# Altium footprint library Ahrist_Library.PcbLib: 172 footprints (part 8 of 11)
Each footprint in its own frame and in the unit in brackets; x right, y up, seen from the top. Pads: shape width x height; smd on the part's side, far side on the other; paste and mask are expansions set on the pad; w line width, h text height; cw(c..) or ccw(c..) is an arc to the next point about the centre after c.
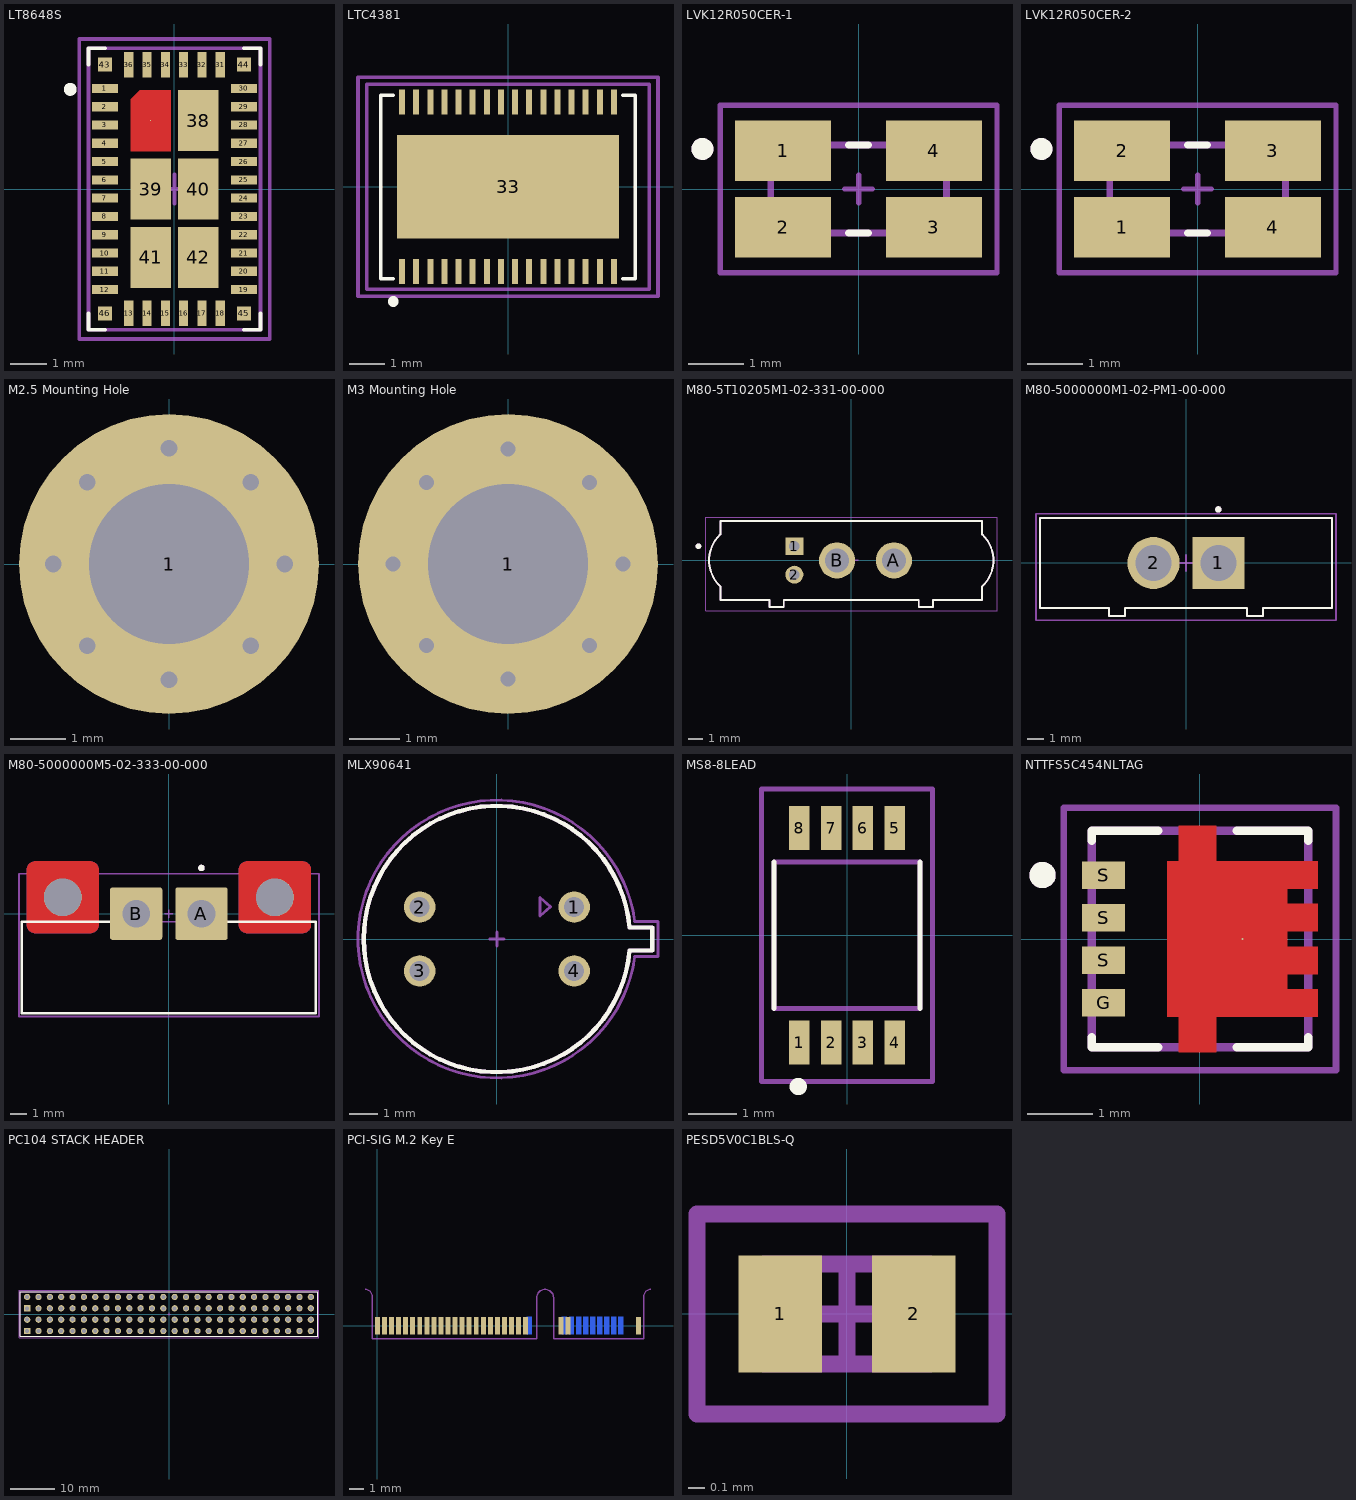
[diagram p7: the footprints below, top view; thin cyan lines are the x and y axes]

## LT8648S [mm]
height 1.03
pads (46):
  rect 0.7x0.25 smd mask+0.1: 1(-1.9,2.75) 2(-1.9,2.25) 3(-1.9,1.75) 4(-1.9,1.25) 5(-1.9,0.75) 6(-1.9,0.25) 7(-1.9,-0.25) 8(-1.9,-0.75) 9(-1.9,-1.25) 10(-1.9,-1.75) 11(-1.9,-2.25) 12(-1.9,-2.75) 19(1.9,-2.75) 20(1.9,-2.25) 21(1.9,-1.75) 22(1.9,-1.25) 23(1.9,-0.75) 24(1.9,-0.25) 25(1.9,0.25) 26(1.9,0.75) 27(1.9,1.25) 28(1.9,1.75) 29(1.9,2.25) 30(1.9,2.75)
  rect 0.25x0.7 smd mask+0.1: 13(-1.25,-3.4) 14(-0.75,-3.4) 15(-0.25,-3.4) 16(0.25,-3.4) 17(0.75,-3.4) 18(1.25,-3.4) 31(1.25,3.4) 32(0.75,3.4) 33(0.25,3.4) 34(-0.25,3.4) 35(-0.75,3.4) 36(-1.25,3.4)
  round 0.025 smd mask+0.1: 37(-0.65,1.87)
  rect 1.1x1.67 smd mask+0.1: 38(0.65,1.87) 39(-0.65,0) 40(0.65,0) 41(-0.65,-1.87) 42(0.65,-1.87)
  rect 0.375x0.375 smd mask+0.1: 43(-1.9,3.4) 44(1.9,3.4) 45(1.9,-3.4) 46(-1.9,-3.4)
Top Layer:
  region: -0.945,2.705 -1.2,2.45 -1.2,1.035 -0.1,1.035 -0.1,2.705
Top Overlay:
  circle w0.254: c-2.85,2.725 r0.05
  lines w0.1: -2.35,-3.4 -2.35,-3.85 -1.9,-3.85 ; -2.35,3.4 -2.35,3.85 -1.9,3.85 ; 1.9,-3.85 2.35,-3.85 2.35,-3.4 ; 1.9,3.85 2.35,3.85 2.35,3.4
Top Solder:
  region: 1.3,-2.805 -1.3,-2.805 -1.3,2.498 -0.992,2.805 1.3,2.805
Top Courtyard:
  lines w0.1: -2.6,-4.1 -2.6,2.7 -2.6,4.1 2.6,4.1 2.6,-4.1 -2.6,-4.1
Top Assembly:
  lines w0.1: -2.35,-3.85 2.35,-3.85 2.35,3.85 -2.35,3.85 -2.35,2.95 -2.35,-3.85
  text ".Designator" at -1.225,-0.133 h0.5
Top Component Center:
  lines w0.1: 0,-0.4 0,0 ; 0,0 0,0.4 0,0 ; 0,0 -0.4,0 0.4,0 0,0
3D body "IC_Analog_Devices_LT8648SEV#PBF_eec.STEP": height 0.25, standoff 0, extent -2.35,-3.85 2.35,3.85

## LTC4381 [mm]
pads (33):
  rect 0.17x0.7 smd mask+0.1: 1(-3,-2.4) 2(-2.6,-2.4) 3(-2.2,-2.4) 4(-1.8,-2.4) 5(-1.4,-2.4) 6(-1,-2.4) 7(-0.6,-2.4) 8(-0.2,-2.4) 9(0.2,-2.4) 10(0.6,-2.4) 11(1,-2.4) 12(1.4,-2.4) 13(1.8,-2.4) 14(2.2,-2.4) 15(2.6,-2.4) 16(3,-2.4) 17(3,2.4) 18(2.6,2.4) 19(2.2,2.4) 20(1.8,2.4) 21(1.4,2.4) 22(1,2.4) 23(0.6,2.4) 24(0.2,2.4) 25(-0.2,2.4) 26(-0.6,2.4) 27(-1,2.4) 28(-1.4,2.4) 29(-1.8,2.4) 30(-2.2,2.4) 31(-2.6,2.4) 32(-3,2.4)
  rect 6.3x2.94 smd mask+0.1: 33(0,0)
Top Overlay:
  circle w0.254: c-3.25,-3.25 r0.025
  lines w0.1: -3.25,-2.6 -3.6,-2.6 -3.6,-2.5 -3.6,-2.25 -3.6,0 -3.6,2.25 -3.6,2.5 -3.6,2.6 -3.25,2.6 ; 3.25,-2.6 3.6,-2.6 3.6,-2.5 3.6,-2.25 3.6,0 3.6,2.25 3.6,2.5 3.6,2.6 3.25,2.6
Top Courtyard:
  lines w0.1: -4.25,-3.1 4.25,-3.1 4.25,3.1 -2.175,3.1 -4.25,3.1 -4.25,-3.1
Top Assembly:
  lines w0.1: -4,-2.9 4,-2.9 4,2.9 -4,2.9 -4,-2.9
  text ".Designator" at -0.68,-0.105 h0.3
Top Component Center:
  lines w0.1: 0.4,0 0,0 ; 0,0 0,0.4 0,0 ; 0,0 -0.4,0 0,0 ; 0,0 0,-0.4 0,0
3D body "IC_Analog_Devices_LTC4381IDKE-2#PBF_eec.STEP": height 0.25, standoff 0, extent -4,-3.456 4,3.456

## LVK12R050CER-1 [mm] "1206 Current Sense"
pads (4):
  rect 1.75x1.1 smd mask+0.075: 1(-1.375,0.7) 2(-1.375,-0.7) 3(1.375,-0.7) 4(1.375,0.7)
Top Overlay:
  circle w0.2: c-2.845,0.73 r0.1
  lines w0.127: -0.18,-0.8 0.18,-0.8 ; -0.18,0.8 0.18,0.8
Top Assembly:
  circle w0.2: c-2.845,0.73 r0.1
  lines w0.127: -1.6,-0.8 -1.6,0.8 1.6,0.8 1.6,-0.8 -1.6,-0.8
Top Designator:
  text ".Designator" at -0.45,-0.081 h0.5
Top Component Outline:
  lines w0.127: -1.6,-0.8 -1.6,0.8 1.6,0.8 1.6,-0.8 -1.6,-0.8
Mechanical 15:
  lines w0.1: -2.525,-1.525 2.525,-1.525 2.525,1.525 -2.525,1.525 -2.525,-1.525
Top Component Center:
  lines w0.1: 0,-0.25 0,0 ; 0,0.25 0,0 ; 0,0 -0.25,0 0,0 ; 0,0 0.25,0 0,0
3D body "LVK12R050CER.stp": height 0.55, standoff 0, extent -1.6,-0.8 1.6,0.8

## LVK12R050CER-2 [mm] "1206 Current Sense"
pads (4):
  rect 1.75x1.1 smd mask+0.075: 1(-1.375,-0.7) 2(-1.375,0.7) 3(1.375,0.7) 4(1.375,-0.7)
Top Overlay:
  circle w0.2: c-2.845,0.73 r0.1
  lines w0.127: -0.18,-0.8 0.18,-0.8 ; -0.18,0.8 0.18,0.8
Top Assembly:
  circle w0.2: c-2.845,0.73 r0.1
  lines w0.127: -1.6,-0.8 -1.6,0.8 1.6,0.8 1.6,-0.8 -1.6,-0.8
Top Designator:
  text ".Designator" at -0.45,-0.081 h0.5
Top Component Outline:
  lines w0.127: -1.6,-0.8 -1.6,0.8 1.6,0.8 1.6,-0.8 -1.6,-0.8
Mechanical 15:
  lines w0.1: -2.525,-1.525 2.525,-1.525 2.525,1.525 -2.525,1.525 -2.525,-1.525
Top Component Center:
  lines w0.1: 0,-0.25 0,0 ; 0,0.25 0,0 ; 0,0 -0.25,0 0,0 ; 0,0 0.25,0 0,0
3D body "LVK12R050CER.stp": height 0.55, standoff 0, extent -1.6,-0.8 1.6,0.8

## M2.5 Mounting Hole [mm] "M2.5 Mounting Hole"
pads (1):
  round 5.45 hole 2.9 mask+0.075: 1(0,0)
via 1.485,-1.485 diameter 0.35 hole 0.3
via -1.485,-1.485 diameter 0.35 hole 0.3
via -1.485,1.485 diameter 0.35 hole 0.3
via 1.485,1.485 diameter 0.35 hole 0.3
via 0,-2.1 diameter 0.35 hole 0.3
via -2.1,0 diameter 0.35 hole 0.3
via 0,2.1 diameter 0.35 hole 0.3
via 2.1,0 diameter 0.35 hole 0.3

## M3 Mounting Hole [mm] "M3 Mounting Hole"
pads (1):
  round 6 hole 3.2 mask+0.075: 1(0,0)
via 1.626,-1.626 diameter 0.35 hole 0.3
via -1.626,-1.626 diameter 0.35 hole 0.3
via -1.626,1.626 diameter 0.35 hole 0.3
via 1.626,1.626 diameter 0.35 hole 0.3
via 0,2.3 diameter 0.35 hole 0.3
via -2.3,0 diameter 0.35 hole 0.3
via 0,-2.3 diameter 0.35 hole 0.3
via 2.3,0 diameter 0.35 hole 0.3

## M3 x 0.50p x 8mm Bolt [mm] "M3 x 0.50p x 8mm Bolt"
3D body "M3x8 v1.step": height 2.8, standoff -8, extent -2.75,-2.75 2.75,2.75

## M80-5T10205M1-02-331-00-000 [mm] "Harwin 2+2 Pos. Male Signal+Power Vertical Throughboard Conn. Jackscrews"
pads (4):
  rect 1.258x1.258 / inner round 1.258 / far side rect 1.258x1.258 hole 0.75: 1(-4,1)
  round 1.258 hole 0.75: 2(-4,-1)
  round 2.55 hole 1.7: A(3,0) B(-1,0)
Top Overlay:
  circle w0.2: c-10.75,1 r0.1
  lines w0.127: -9.205,-1.828 cw(c-7.5,0) -9.205,1.828 ; -9.2,-1.833 -9.2,-2.775 -5.75,-2.775 -5.75,-3.275 -4.75,-3.275 -4.75,-2.775 4.75,-2.775 4.75,-3.275 5.75,-3.275 5.75,-2.775 9.2,-2.775 9.2,-1.833 ; -9.2,1.833 -9.2,2.775 -1.05,2.775 1.05,2.775 1.45,2.775 4.55,2.775 9.2,2.775 9.2,1.833 ; 9.205,-1.828 ccw(c7.5,0) 9.205,1.828
Top Courtyard:
  lines w0.05: -10.25,-3.525 10.25,-3.525 10.25,3.025 -10.25,3.025 -10.25,-3.525
Top Assembly:
  circle w0.2: c-10.75,1 r0.1
  lines w0.127: -9.205,-1.828 cw(c-7.5,0) -9.205,1.828 ; -9.2,-1.833 -9.2,-2.775 -5.75,-2.775 -5.75,-3.275 -4.75,-3.275 -4.75,-2.775 4.75,-2.775 4.75,-3.275 5.75,-3.275 5.75,-2.775 9.2,-2.775 9.2,-1.833 ; -9.2,1.833 -9.2,2.775 -1.05,2.775 1.05,2.775 1.45,2.775 4.55,2.775 9.2,2.775 9.2,1.833 ; 9.205,-1.828 ccw(c7.5,0) 9.205,1.828
  text ".Designator" at -2.5,-0.214 h1.52
Top Component Center:
  lines w0.1: -0.5,0 0,0 ; 0,-0.5 0,0.5 0,0 ; 0.5,0 0,0
3D body "M80-5T10205M1-02-331-00-000_asm.stp": height 5.18, standoff -3.72, extent -9.99,-3.275 9.99,2.775

## M80-5000000M1-02-PM1-00-000 [mm] "2 Pos. Male SIL Vertical Throughboard Conn. Jackscrews"
pads (2):
  rect 3.216x3.216 / inner round 3.216 / far side rect 3.216x3.216 hole 2.2: 1(2,0)
  round 3.216 hole 2.2: 2(-2,0)
Top Overlay:
  circle w0.2: c2,3.3 r0.1
  lines w0.127: -9,-2.775 -9,2.775 9,2.775 9,-2.775 4.75,-2.775 4.75,-3.275 3.75,-3.275 3.75,-2.775 -3.75,-2.775 -3.75,-3.275 -4.75,-3.275 -4.75,-2.775 -9,-2.775
Top Courtyard:
  lines w0.1: -9.25,-3.525 9.25,-3.525 9.25,3.025 -9.25,3.025 -9.25,-3.525
Top Assembly:
  circle w0.2: c2,3.3 r0.1
  lines w0.1: -9,-2.775 -4.75,-2.775 -4.75,-3.275 -3.75,-3.275 -3.75,-2.775 3.75,-2.775 3.75,-3.275 4.75,-3.275 4.75,-2.775 9,-2.775 9,2.775 -9,2.775 -9,-2.775
Top Component Center:
  lines w0.1: 0,-0.5 0,0 ; 0,0.5 0,0 ; 0,0 -0.5,0 0,0 ; 0,0 0.5,0 0,0
3D body "M80-5000000M1-02-PM1-00-000_asm.stp": height 5.7, standoff -3.2, extent -8.99,-3.275 8.99,2.775

## M80-5000000M5-02-333-00-000 [mm] "Harwin Datamate 2pin Power"
pads (6):
  round 0.025 all layers, no hole mask+0.075: 6(-6.5,1) 6(6.5,1)
  rrect8% 3.2x3.2 hole 1.7: A(2,0) B(-2,0)
  round 2.3 hole 2.3 unplated: ""(-6.5,1) ""(6.5,1)
Top Layer:
  region: -8.2,-1.2 -8.249,-1.2 -8.346,-1.181 -8.437,-1.143 -8.519,-1.088 -8.588,-1.019 -8.643,-0.937 -8.681,-0.846 -8.7,-0.749 -8.7,-0.7 -8.7,2.7 -8.7,2.749 -8.681,2.846 -8.643,2.937 -8.588,3.019 -8.519,3.088 -8.437,3.143 -8.346,3.181 -8.249,3.2 -8.2,3.2 -4.8,3.2 -4.751,3.2 -4.654,3.181 -4.563,3.143 -4.481,3.088 -4.412,3.019 -4.357,2.937 -4.319,2.846 -4.3,2.749 -4.3,2.7 -4.3,-0.7 -4.3,-0.749 -4.319,-0.846 -4.357,-0.937 -4.412,-1.019 -4.481,-1.088 -4.563,-1.143 -4.654,-1.181 -4.751,-1.2 -4.8,-1.2
  region: 8.2,-1.2 8.249,-1.2 8.346,-1.181 8.437,-1.143 8.519,-1.088 8.588,-1.019 8.643,-0.937 8.681,-0.846 8.7,-0.749 8.7,-0.7 8.7,2.7 8.7,2.749 8.681,2.846 8.643,2.937 8.588,3.019 8.519,3.088 8.437,3.143 8.346,3.181 8.249,3.2 8.2,3.2 4.8,3.2 4.751,3.2 4.654,3.181 4.563,3.143 4.481,3.088 4.412,3.019 4.357,2.937 4.319,2.846 4.3,2.749 4.3,2.7 4.3,-0.7 4.3,-0.749 4.319,-0.846 4.357,-0.937 4.412,-1.019 4.481,-1.088 4.563,-1.143 4.654,-1.181 4.751,-1.2 4.8,-1.2
Bottom Layer:
  region: -8.2,-1.2 -8.249,-1.2 -8.346,-1.181 -8.437,-1.143 -8.519,-1.088 -8.588,-1.019 -8.643,-0.937 -8.681,-0.846 -8.7,-0.749 -8.7,-0.7 -8.7,2.7 -8.7,2.749 -8.681,2.846 -8.643,2.937 -8.588,3.019 -8.519,3.088 -8.437,3.143 -8.346,3.181 -8.249,3.2 -8.2,3.2 -4.8,3.2 -4.751,3.2 -4.654,3.181 -4.563,3.143 -4.481,3.088 -4.412,3.019 -4.357,2.937 -4.319,2.846 -4.3,2.749 -4.3,2.7 -4.3,-0.7 -4.3,-0.749 -4.319,-0.846 -4.357,-0.937 -4.412,-1.019 -4.481,-1.088 -4.563,-1.143 -4.654,-1.181 -4.751,-1.2 -4.8,-1.2
  region: 8.2,-1.2 8.249,-1.2 8.346,-1.181 8.437,-1.143 8.519,-1.088 8.588,-1.019 8.643,-0.937 8.681,-0.846 8.7,-0.749 8.7,-0.7 8.7,2.7 8.7,2.749 8.681,2.846 8.643,2.937 8.588,3.019 8.519,3.088 8.437,3.143 8.346,3.181 8.249,3.2 8.2,3.2 4.8,3.2 4.751,3.2 4.654,3.181 4.563,3.143 4.481,3.088 4.412,3.019 4.357,2.937 4.319,2.846 4.3,2.749 4.3,2.7 4.3,-0.7 4.3,-0.749 4.319,-0.846 4.357,-0.937 4.412,-1.019 4.481,-1.088 4.563,-1.143 4.654,-1.181 4.751,-1.2 4.8,-1.2
Top Overlay:
  circle w0.2: c2,2.8 r0.1
  lines w0.15: -3.595,-0.5 -9,-0.5 -9,-6.1 9,-6.1 9,-0.5 3.595,-0.5
Top Courtyard:
  lines w0.1: -9.175,-6.3 -9.175,2.45 9.2,2.45 9.2,-6.3 -9.175,-6.3
Top Assembly:
  circle w0.2: c2,2.8 r0.1
  lines w0.1: -9,-6.1 9,-6.1 9,-0.5 -9,-0.5 -9,-6.1
Top Designator:
  text ".Designator" at -1,-1.718 h1.5
Top Component Outline:
  lines w0.1: -9,-6.1 9,-6.1 9,-0.5 -9,-0.5 -9,-6.1
Top Component Center:
  lines w0.1: 0,-0.25 0,0 ; 0,0 0,0.25 0,0 ; 0,0 0.25,0 -0.25,0 0,0
3D body "M80-5000000M5-02-333-00-000_asm.stp": height 6.13, standoff -4.62, extent -8.99,-6.1 8.99,3

## MLX90641 [mm] "SENSOR TEMP 16X12 60FOV TO39"
pads (4):
  round 1.1 hole 0.7: 1(2.698,1.117) 2(-2.698,1.117) 3(-2.698,-1.117) 4(2.698,-1.117)
Top Overlay:
  lines w0.15: 4.633,-0.4 cw(c0,0) 4.633,0.4 ; 4.65,-0.4 5.425,-0.4 5.425,0.4 4.65,0.4
Top Courtyard:
  lines w0.1: 4.811,-0.616 cw(c0,0) 4.811,0.616 5.625,0.616 5.625,-0.616 4.812,-0.616
Top Assembly:
  lines w0.1: 1.5,0.8 1.875,1.125 1.5,1.45 1.5,0.8
  lines w0.15: 4.633,-0.4 cw(c0,0) 4.633,0.4 ; 4.65,-0.4 5.425,-0.4 5.425,0.4 4.65,0.4
Top Designator:
  text ".Designator" at -0.59,-0.144 h0.5
Top Component Outline:
  lines w0.15: 4.633,-0.4 cw(c0,0) 4.633,0.4 ; 4.65,-0.4 5.425,-0.4 5.425,0.4 4.65,0.4
Top Component Center:
  lines w0.1: 0,-0.25 0,0 ; 0,0 0,0.25 0,0 ; 0,0 0.25,0 -0.25,0 0,0
3D body "step_temp.STEP": height 6.1, standoff -6.4, extent -6.085,-6.228 6.441,6.06

## MS8-8LEAD [mm] "MS8-8LEAD"
pads (8):
  rect 0.42x0.9 smd mask+0.05: 1(-0.975,-2.2) 2(-0.325,-2.2) 3(0.325,-2.2) 4(0.975,-2.2) 5(0.975,2.2) 6(0.325,2.2) 7(-0.325,2.2) 8(-0.975,2.2)
Top Overlay:
  circle w0.254: c-1,-3.1 r0.05
  lines w0.1: -1.5,-1.5 -1.5,1.5 ; 1.5,-1.5 1.5,1.5
Top Courtyard:
  lines w0.1: -1.75,-3 -1.75,3 1.75,3 1.75,-3 -0.35,-3 -1.75,-3
Top Assembly:
  lines w0.1: -1.5,-1.5 -1.5,-0.075 -1.5,1.5 1.5,1.5 1.5,-1.5 -1.5,-1.5
3D body "LTC4372CMS8#PBF.STEP": height 1.1, standoff 0, extent -1.5,-2.45 1.5,2.45

## NTTFS5C454NLTAG [mm] "8-WDFN (3.3x3.3)"
pads (5):
  round 0.025 smd paste-2539.97 mask+0.05: D(0.65,0)
  rect 0.66x0.42 smd mask+0.05: G(-1.47,-0.975) S(-1.47,-0.325) S(-1.47,0.325) S(-1.47,0.975)
Top Layer:
  region: 0.25,1.185 1.8,1.185 1.8,0.765 1.33,0.765 1.33,0.535 1.8,0.535 1.8,0.115 1.33,0.115 1.33,-0.115 1.8,-0.115 1.8,-0.535 1.33,-0.535 1.33,-0.765 1.8,-0.765 1.8,-1.185 0.25,-1.185 0.25,-1.73 -0.32,-1.73 -0.32,-1.185 -0.5,-1.185 -0.5,1.185 -0.32,1.185 -0.32,1.73 0.25,1.73
Top Overlay:
  circle w0.2: c-2.4,0.975 r0.1
  lines w0.127: -1.65,-1.5 -1.65,-1.65 -0.633,-1.65 ; -1.65,1.5 -1.65,1.65 -0.633,1.65 ; 0.563,-1.65 1.65,-1.65 1.65,-1.5 ; 0.563,1.65 1.65,1.65 1.65,1.5
Top Paste:
  region: 1.75,0.84 1.25,0.84 1.25,0.46 1.75,0.46 1.75,0.2 1.25,0.2 1.25,0.1 0.78,0.1 0.78,1.1 1.75,1.1
  region: 0.18,1.1 0.58,1.1 0.58,0.1 -0.42,0.1 -0.42,1.1 -0.24,1.1 -0.24,1.65 0.18,1.65
  region: 1.25,-0.2 1.75,-0.2 1.75,-0.46 1.25,-0.46 1.25,-0.84 1.75,-0.84 1.75,-1.1 0.78,-1.1 0.78,-0.1 1.25,-0.1
  region: 0.58,-1.1 0.18,-1.1 0.18,-1.65 -0.24,-1.65 -0.24,-1.1 -0.42,-1.1 -0.42,-0.1 0.58,-0.1
Top Courtyard:
  lines w0.1: -2.075,-2 -2.075,2 2.075,2 2.075,-2 -2.075,-2
Top Assembly:
  circle w0.2: c-2.4,0.975 r0.1
  lines w0.127: -1.65,-1.65 1.65,-1.65 1.65,1.65 -1.65,1.65 -1.65,-1.65
Top Designator:
  text ".Designator" at -0.25,-0.156 h0.5
Top Component Outline:
  lines w0.127: -1.65,-1.65 1.65,-1.65 1.65,1.65 -1.65,1.65 -1.65,-1.65
Top Component Center:
  lines w0.1: 0,-0.25 0,0 ; 0,0 -0.25,0 0.25,0 0,0 ; 0,0 0,0.25 0,0
3D body "step_temp.STEP": height 0.8, standoff 0, extent -1.65,-1.65 1.65,1.65

## PC104 STACK HEADER [mm] "4x26 2.54mm Header"
pads (104):
  rect 1.398x1.398 hole 0.89 mask+0.05: A1(-31.75,-3.81) B1(-31.75,1.27)
  round 1.398 hole 0.89 mask+0.05: A2(-31.75,-1.27) A3(-29.21,-3.81) A4(-29.21,-1.27) A5(-26.67,-3.81) A6(-26.67,-1.27) A7(-24.13,-3.81) A8(-24.13,-1.27) A9(-21.59,-3.81) A10(-21.59,-1.27) A11(-19.05,-3.81) A12(-19.05,-1.27) A13(-16.51,-3.81) A14(-16.51,-1.27) A15(-13.97,-3.81) A16(-13.97,-1.27) A17(-11.43,-3.81) A18(-11.43,-1.27) A19(-8.89,-3.81) A20(-8.89,-1.27) A21(-6.35,-3.81) A22(-6.35,-1.27) A23(-3.81,-3.81) A24(-3.81,-1.27) A25(-1.27,-3.81) A26(-1.27,-1.27) A27(1.27,-3.81) A28(1.27,-1.27) A29(3.81,-3.81) A30(3.81,-1.27) A31(6.35,-3.81) A32(6.35,-1.27) A33(8.89,-3.81) A34(8.89,-1.27) A35(11.43,-3.81) A36(11.43,-1.27) A37(13.97,-3.81) A38(13.97,-1.27) A39(16.51,-3.81) A40(16.51,-1.27) A41(19.05,-3.81) A42(19.05,-1.27) A43(21.59,-3.81) A44(21.59,-1.27) A45(24.13,-3.81) A46(24.13,-1.27) A47(26.67,-3.81) A48(26.67,-1.27) A49(29.21,-3.81) A50(29.21,-1.27) A51(31.75,-3.81) A52(31.75,-1.27) B2(-31.75,3.81) B3(-29.21,1.27) B4(-29.21,3.81) B5(-26.67,1.27) B6(-26.67,3.81) B7(-24.13,1.27) B8(-24.13,3.81) B9(-21.59,1.27) B10(-21.59,3.81) B11(-19.05,1.27) B12(-19.05,3.81) B13(-16.51,1.27) B14(-16.51,3.81) B15(-13.97,1.27) B16(-13.97,3.81) B17(-11.43,1.27) B18(-11.43,3.81) B19(-8.89,1.27) B20(-8.89,3.81) B21(-6.35,1.27) B22(-6.35,3.81) B23(-3.81,1.27) B24(-3.81,3.81) B25(-1.27,1.27) B26(-1.27,3.81) B27(1.27,1.27) B28(1.27,3.81) B29(3.81,1.27) B30(3.81,3.81) B31(6.35,1.27) B32(6.35,3.81) B33(8.89,1.27) B34(8.89,3.81) B35(11.43,1.27) B36(11.43,3.81) B37(13.97,1.27) B38(13.97,3.81) B39(16.51,1.27) B40(16.51,3.81) B41(19.05,1.27) B42(19.05,3.81) B43(21.59,1.27) B44(21.59,3.81) B45(24.13,1.27) B46(24.13,3.81) B47(26.67,1.27) B48(26.67,3.81) B49(29.21,1.27) B50(29.21,3.81) B51(31.75,1.27) B52(31.75,3.81)
Top Overlay:
  lines w0.2: -33.275,-5.015 -33.275,-3.94 -33.275,0.235 -33.275,5.035 33.275,5.035 33.275,-0.065 33.275,-5.015 -33.275,-5.015
Top Courtyard:
  lines w0.2: -33.575,-3.54 -33.575,0.235 ; -33.575,-3.14 -33.575,-5.315 33.575,-5.315 33.575,0.235 ; -33.575,-0.235 -33.575,3.54 ; -33.575,3.14 -33.575,5.315 33.575,5.315 33.575,-0.235
Top Assembly:
  lines w0.2: -33.275,-2.3 -33.275,5.015 33.275,5.015 33.275,0.065 ; -33.275,-1.765 -33.275,-5.015 33.275,-5.015 33.275,-0.065
Top Designator:
  text ".Designator" at 0,0.188 h1
Top Component Outline:
  lines w0.2: -33.275,-2.3 -33.275,5.015 33.275,5.015 33.275,0.065 ; -33.275,-1.765 -33.275,-5.015 33.275,-5.015 33.275,-0.065
Top Component Center:
  lines w0.1: 0,-0.25 0,0 ; 0,0 0,0.25 0,0 ; 0,0 0.25,0 -0.25,0 0,0
3D body "SSQ-126-21-G-D.stp": height 8.51, standoff -2.64, extent -33.274,0.064 33.274,5.016
3D body "SSQ-126-21-G-D.stp": height 8.51, standoff -2.64, extent -33.274,-5.016 33.274,-0.064

## PCI-SIG M.2 Key E [mm] "M.2 Connector"
pads (35):
  rect 0.35x1.25 smd mask+0.102: 1(0,0) 2(0.5,0) 3(1,0) 4(1.5,0) 5(2,0) 6(2.5,0) 7(3,0) 8(3.5,0) 9(4,0) 10(4.5,0) 11(5,0) 12(5.5,0) 13(6,0) 14(6.5,0) 15(7,0) 16(7.5,0) 17(8,0) 18(8.5,0) 19(9,0) 20(9.5,0) 21(10,0) 22(10.5,0)
  rect 0.35x1.25 smd far side paste-2539.97 mask+0.102: 1(10.75,0) 1(13.25,0) 2(13.75,0) 2(14.25,0) 2(14.75,0) 2(15.25,0) 2(15.75,0) 2(16.25,0) 2(16.75,0) 2(17.25,0)
  rect 0.35x1.25 smd paste-2539.97 mask+0.102: 1(13,0) 2(13.5,0) 12(18.5,0)
Board:
  lines w0.1: -0.875,2.575 cw(c-0.875,2.075) -0.375,2.075 -0.375,-0.925 3.575,-0.925 11.275,-0.925 11.275,1.975 cw(c11.875,1.975) 12.475,1.975 12.475,-0.925 14.925,-0.925 18.875,-0.925 18.875,2.075 cw(c19.375,2.075) 19.375,2.575

## PESD5V0C1BLS-Q [mm] "SOD882BD"
pads (2):
  rect 0.5x0.7 smd mask+0.05: 1(-0.4,0) 2(0.4,0)
Top Courtyard:
  lines w0.1: -0.9,-0.6 -0.9,-0.05 -0.9,0.6 0.9,0.6 0.9,-0.6 -0.9,-0.6
Top Assembly:
  lines w0.1: -0.5,-0.3 -0.025,-0.3 0.5,-0.3 0.5,0.3 -0.5,0.3 -0.5,-0.3
Top Designator:
  text ".Designator" at -0.365,-0.14 h0.6
Top Component Outline:
  lines w0.1: -0.5,-0.3 -0.025,-0.3 0.5,-0.3 0.5,0.3 -0.5,0.3 -0.5,-0.3
Top Component Center:
  lines w0.1: 0,-0.25 0,0 ; 0,0 -0.25,0 0.25,0 0,0 ; 0,0 0,0.25 0,0
3D body "SOD882BD.step": height 0.38, standoff 0, extent -0.51,-0.3 0.51,0.3